# EAGLE library part FFC-8 (library SHC)
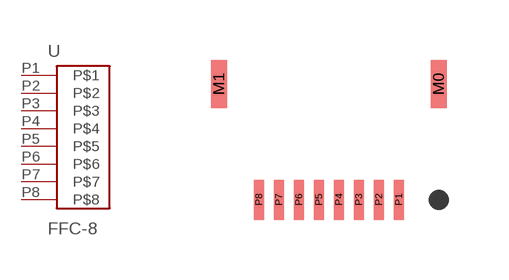
[diagram p4: symbol with the pads of FFC-8; footprint FFC-8]

Designator prefix -

## FFC-8  [FFC-8]
P1  P$1
P2  P$2
P3  P$3
P4  P$4
P5  P$5
P6  P$6
P7  P$7
P8  P$8

## Footprint FFC-8 (pad centres in mm)
smd 0.4 x 1.2: M0 2.75,2.9; M1 -2.75,2.9
smd 0.25 x 1: P1 1.75,0; P2 1.25,0; P3 0.75,0; P4 0.25,0; P5 -0.25,0; P6 -0.75,0; P7 -1.25,0; P8 -1.75,0